# EAGLE library part SMF (library diode)
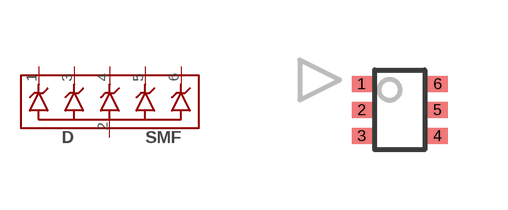
[diagram p2: symbol with the pads of SC70-6; footprint SC70-6]

Designator prefix D

## SMF05CT1G (MARK: 6J; MF: ONSEMI; MPN: SMF05CT1G), SMF12CT1G (MARK: 6K; MF: ONSEMI; MPN: SMF12CT1G), SMF15CT1G (MARK: 6L; MF: ONSEMI; MPN: SMF15CT1G), SMF24CT1G (MARK: 6M; MF: ONSEMI; MPN: SMF24CT1G)  [SC70-6]
1  C1  pas
2  A  pas
3  C2  pas
4  C3  pas
5  C4  pas
6  C5  pas

## Footprint SC70-6 (pad centres in mm)
smd 0.5 x 0.4: 1 -0.95,0.65; 2 -0.95,0; 3 -0.95,-0.65; 4 0.95,-0.65; 5 0.95,0; 6 0.95,0.65